# Altium footprint library Flex_LCM_DLW5AT.PcbLib: 1 footprints
Each footprint in its own frame and in the unit in brackets; x right, y up, seen from the top. Pads: shape width x height; smd on the part's side, far side on the other; paste and mask are expansions set on the pad; w line width, h text height; cw(c..) or ccw(c..) is an arc to the next point about the centre after c.
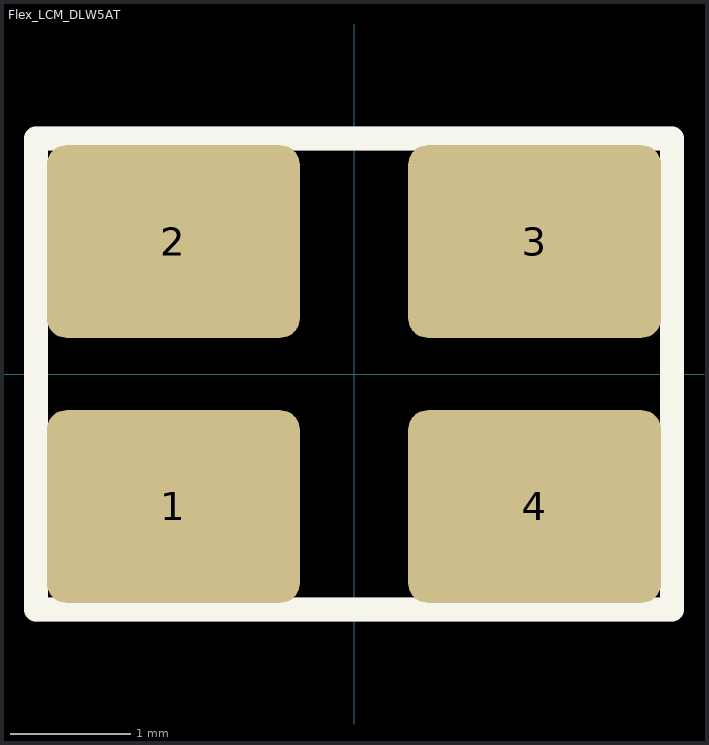
[diagram p0: the footprint, top view; thin cyan lines are the x and y axes]

## Flex_LCM_DLW5AT [mm]
height 2.35
pads (4):
  rrect20% 2.1x1.6 smd paste-0.2 mask-0.102: 1(-1.5,-1.1) 2(-1.5,1.1) 3(1.5,1.1) 4(1.5,-1.1)
Top Overlay:
  lines w0.2: -2.642,-1.549 -2.642,1.524 ; -2.642,-1.499 -2.642,-1.956 2.642,-1.956 2.642,-1.499 ; -2.642,1.499 -2.642,1.956 2.642,1.956 2.642,1.499 2.642,-1.524
Mechanical 1:
  lines w0.2: -2.642,-1.549 -2.642,1.6 ; -2.642,-1.499 -2.642,-1.956 2.642,-1.956 2.642,-1.473 ; -2.642,1.499 -2.642,1.956 2.642,1.956 2.642,1.499 ; 2.642,-1.549 2.642,1.524
3D body: height 2.35, standoff 0, extent -2.642,-1.956 2.642,1.956